# Altium schematic symbol library SS12.SchLib: 1 symbol
Pins are listed as number, name and electrical type; pins without a type are passive.

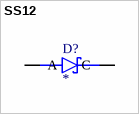
[diagram p0: symbol SS12]

## SS12
designator D?
N-Channel 100V 170mA (Ta) 225mW (Ta) Surface Mount SOT-23-3 (TO-236); MF: ON Semiconductor; MP: SS12; SnapEDA_Link: https://www.snapeda.com/parts/SS12/Onsemi/view-part/?ref=snap; Package: SMA-2 ON Semiconductor; Value: *; Check_prices: https://www.snapeda.com/parts/SS12/Onsemi/view-part/?ref=eda
footprint DIOM4427X270N
pins: A, C